# Altium schematic symbol library ADG758.SchLib: 1 symbol
Pins are listed as number, name and electrical type; pins without a type are passive.

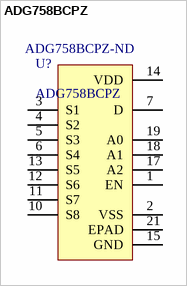
[diagram p0: symbol ADG758BCPZ]

## ADG758BCPZ
designator U?  Supplier Part Number 1: ADG758BCPZ-ND
Analog Devices / 8 channel Analog Switch / ADG758BCPZ; Supplier 1: Digi-Key
footprint PQFN50P400X400X80_HS-21N (PQFN, 20-Leads, Body 4.00x4.00mm, Pitch 0.50mm, Thermal Pad 2.15x2.15mm, IPC Medium Density)
pins: 1 EN, 2 VSS, 3 S1, 4 S2, 5 S3, 6 S4, 7 D, 10 S8, 11 S7, 12 S6, 13 S5, 14 VDD, 15 GND, 17 A2, 18 A1, 19 A0, 21 EPAD